# Altium footprint library RX_BA_v4.PcbLib: 23 footprints (part 1 of 2)
Each footprint in its own frame and in the unit in brackets; x right, y up, seen from the top. Pads: shape width x height; smd on the part's side, far side on the other; paste and mask are expansions set on the pad; w line width, h text height; cw(c..) or ccw(c..) is an arc to the next point about the centre after c.
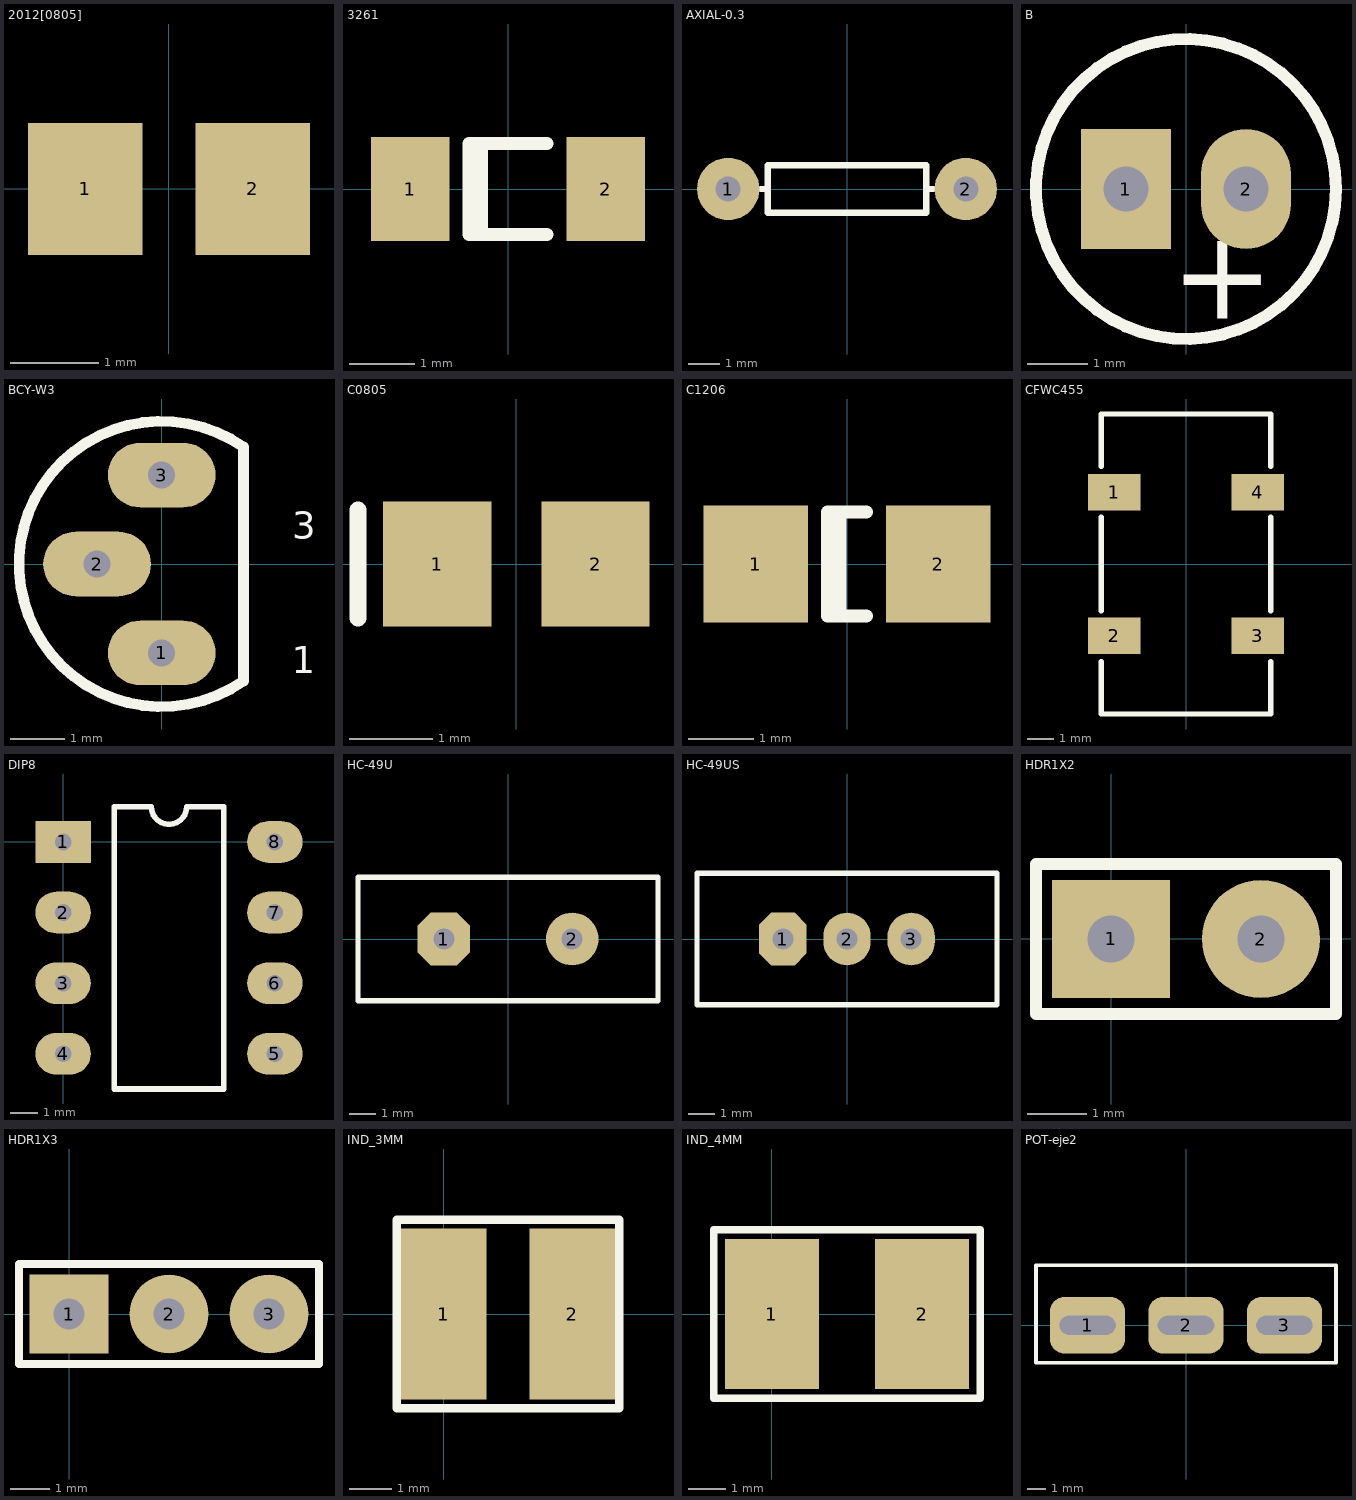
[diagram p0: the footprints below, top view; thin cyan lines are the x and y axes]

## 2012[0805] [mm] "Chip Resistor; Body 2.0 x 1.3 mm (LxW typ)"
height 2.54
pads (2):
  rect 1.3x1.5 smd: 1(-0.95,0) 2(0.95,0)

## 3261 [mm] "3216 Chip; Chip Inductor; Body 3.2 x 1.6 mm (LxW typ)"
height 0.55
pads (2):
  rect 1.2x1.6 smd: 1(-1.5,0) 2(1.5,0)
Top Overlay:
  lines w0.2: -0.41,-0.7 -0.41,0.7 ; 0.6,-0.7 -0.6,-0.7 -0.6,0.7 0.6,0.7

## AXIAL-0.3 [mm] "Resistor; 2 Leads"
height 1.524
pads (2):
  round 2 hole 0.8: 1(-3.81,0) 2(3.81,0)
Top Overlay:
  lines w0.2: -2.769,0 -2.54,0 ; 2.769,0 2.54,0 ; 2.54,0 2.54,0.762 -2.54,0.762 -2.54,-0.762 2.54,-0.762 2.54,0

## B [mm] "Capacitor, Electrolytic, Radial; Body 5 x 6.8 mm (Dia.xH typ); Pin Spacing 2 mm (typ)"
pads (2):
  rect 1.5x2 hole 0.75: 1(-1,0)
  oval 1.5x2 hole 0.75: 2(1,0)
Top Overlay:
  circle w0.2: c0,0 r2.5
  text "+" at -0.254,-2.159 h1.5

## BCY-W3 [mm] "TO, Flat Index; 3 In-Line, Axial Leads; Body Dia. 4.8mm; Leads 0.55 x 0.51 mm (max)"
height 5.33
pads (3):
  oval 2x1.2 hole 0.5: 1(0,-1.651) 2(-1.2,0) 3(0,1.651)
Top Overlay:
  lines w0.2: 1.52,-2.171 cw(c0,0) 1.52,2.171 1.52,-2.171
  text "1" at 2.413,-2.032 h0.5
  text "3" at 2.421,0.467 h0.5
3D body: height 2, standoff -2, extent -0.397,-2.05 0.4,-1.252
3D body: height 2, standoff -2, extent -0.397,1.252 0.4,2.05
3D body: height 2, standoff -2, extent -1.597,-0.399 -0.8,0.399
3D body: height 5.33, standoff 1, extent -2.659,-2.659 1.523,2.659

## C0805 [mm] "Chip Capacitor; Body 2.0 x 1.2 mm (LxW typ)"
height 1.1
pads (2):
  rect 1.3x1.5 smd: 1(-0.95,0) 2(0.95,0)
Top Overlay:
  lines w0.2: -1.9,-0.65 -1.9,0.65

## C1206 [mm] "Chip Capacitor; Body 3.2 x 1.6 mm (LxW typ)"
height 1.35
pads (2):
  rect 1.6x1.8 smd: 1(-1.4,0) 2(1.4,0)
Top Overlay:
  lines w0.2: -0.11,-0.8 -0.11,0.8 ; 0.3,-0.8 -0.3,-0.8 -0.3,0.8 0.3,0.8

## CFWC455 [mm]
pads (4):
  rect 2x1.4 smd: 1(-2.75,2.75) 2(-2.75,-2.75) 3(2.75,-2.75) 4(2.75,2.75)
Top Overlay:
  lines w0.2: -3.25,-3.75 -3.25,-5.75 0,-5.75 3.25,-5.75 3.25,-3.75 ; -3.25,-1.8 -3.25,1.8 ; -3.25,3.75 -3.25,5.75 0,5.75 3.25,5.75 3.25,3.75 ; 3.25,-1.8 3.25,1.8
3D body: height 1, standoff 0, extent -3.487,-3.436 -1.963,-2.064
3D body: height 1, standoff 0, extent 1.924,-3.436 3.448,-2.064
3D body: height 1, standoff 0, extent 1.924,2.064 3.448,3.436
3D body: height 2, standoff 0, extent -3.487,2.064 -1.963,3.436
3D body: height 3, standoff 0, extent -3.35,-5.85 3.35,5.85

## DIP8 [mm]
pads (8):
  rect 2x1.5 hole 0.6: 1(0,0)
  oval 2x1.5 hole 0.6: 2(0,-2.54) 3(0,-5.08) 4(0,-7.62) 5(7.62,-7.62) 6(7.62,-5.08) 7(7.62,-2.54) 8(7.62,0)
Top Overlay:
  lines w0.2: 1.835,-8.89 5.785,-8.89 5.785,1.27 4.445,1.27 cw(c3.81,1.27) 3.175,1.27 1.835,1.27 1.835,-8.89
3D body: height 5.06, standoff -3.34, extent -0.996,-8.941 8.565,1.219

## HC-49U [mm] "Quartz Crystal, Thru-Hole; 2 Leads; Body 11.35 x 4.65 x 13.46 mm (LxWxH max)"
height 13.46
pads (2):
  oct 2x2 hole 0.8: 1(-2.44,0)
  round 2 hole 0.8: 2(2.44,0)
Top Overlay:
  lines w0.2: -5.7,-2.35 5.7,-2.35 5.7,2.35 -5.7,2.35 -5.7,-2.35

## HC-49US [mm] "Quartz Crystal, Thru-Hole; 3 Leads; Body 11.35 x 5 x 3.5 mm (LxWxH max)"
height 3.5
pads (3):
  oct 1.8x2 hole 0.8: 1(-2.44,0)
  oval 1.8x2 hole 0.8: 2(0,0) 3(2.44,0)
Top Overlay:
  lines w0.2: -5.7,-2.5 -5.7,2.5 5.7,2.5 5.7,-2.5 -5.7,-2.5

## HDR1X2 [mm] "Connector; Header; 2 Position"
pads (2):
  rect 2x2 hole 0.8: 1(0,0)
  round 2 hole 0.8: 2(2.54,0)
Top Overlay:
  lines w0.2: -1.27,-1.27 3.81,-1.27 3.81,1.27 -1.27,1.27 -1.27,-1.27

## HDR1X3 [mm] "Connector; Header; 3 Position"
pads (3):
  rect 2x2 hole 0.8: 1(0,0)
  round 2 hole 0.8: 2(2.54,0) 3(5.08,0)
Top Overlay:
  lines w0.2: -1.27,-1.27 6.35,-1.27 6.35,1.27 -1.27,1.27 -1.27,-1.27

## IND_3MM [mm]
pads (2):
  rect 2x4 smd: 1(0,0) 2(3,0)
Top Overlay:
  lines w0.2: -1.1,-2.2 -1.1,0.9 -1.1,2.2 4.1,2.2 4.1,-2.2 -1.1,-2.2
3D body: height 3.95, standoff 0.05, extent -0.2,-1.95 3.2,1.95

## IND_4MM [mm]
pads (2):
  rect 2.5x4 smd: 1(0,0) 2(4,0)
Top Overlay:
  lines w0.2: -1.55,-2.25 5.55,-2.25 5.55,2.25 -1.55,2.25 -1.55,0.5 -1.55,-2.25
3D body: height 3.95, standoff 0.05, extent -0.2,-1.95 4.2,1.95

## POT-eje2 [mm]
pads (3):
  rrect50% 4x3 hole 1 slot 3 at 0 deg: 1(-5.25,0) 2(0,0) 3(5.25,0)
Top Overlay:
  lines w0.2: -8,-2 -8,3.2 8,3.2 8,-2 -8,-2
3D body: height 30.96, standoff -6.31, extent -13.437,-27.965 13.487,11.913